# EAGLE library part TS5A3159ADBVR (library TS5A3159ADBVR)
1 Ohm SPDT Analog Switch 5-V/3.3-V Single Channel 2:1 Multiplexer/Demultiplexer Source: Datasheet <http://www.ti.com/lit/gpn/ts5a3159a>
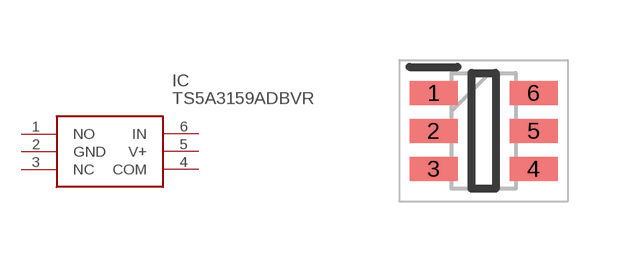
[diagram p0: symbol with the pads of SOT95P280X145-6N; footprint SOT95P280X145-6N]

Designator prefix IC

## TS5A3159ADBVR (Description: 1 Ohm SPDT Analog Switch 5-V/3.3-V Single Channel 2:1 Multiplexer/Demultiplexer; Height: 1.45mm; Manufacturer_Name: Texas Instruments; Manufacturer_Part_Number: TS5A3159ADBVR)  [SOT95P280X145-6N]
1  NO
2  GND
3  NC  nc
4  COM
5  V+
6  IN

## Footprint SOT95P280X145-6N (pad centres in mm)
DBV (R-PDSO-G6)
smd 1.2 x 0.6: 1 -1.25,0.95; 2 -1.25,0; 3 -1.25,-0.95; 4 1.25,-0.95; 5 1.25,0; 6 1.25,0.95